# Altium schematic symbol library Audio - Alarms Buzzers and Sirens.SchLib: 4 symbols
Pins are listed as number, name and electrical type; pins without a type are passive.

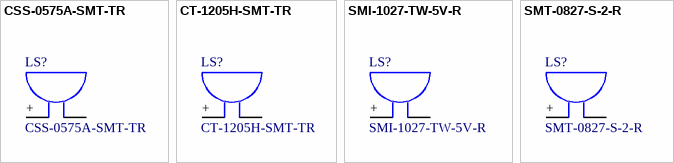
[diagram p0: symbols CSS-0575A-SMT-TR to SMT-0827-S-2-R]

## CSS-0575A-SMT-TR
designator LS?
AUDIO MAGNETIC XDCR 2-4V SMD; Manufacturer: CUI Devices; Current - Supply: 95mA; Driver Circuitry: Transducer, Externally Driven; Frequency: 4kHz; Input Type: Zero-Peak Signal; Operating Mode: Single Tone; Port Location: Top; Sound Pressure Level (SPL): 76dB @ 3V, 10cm; Voltage Range: 2 ~ 4V; Voltage - Rated: 3V; Part Number: CSS-0575A-SMT-TR; ComponentLink1Description: Datasheet; ComponentLink1URL: https://www.cuidevices.com/product/resource/digikeypdf/css-0575a-smt-tr.pdf; ComponentLink2Description: DigiKey Link; ComponentLink2URL: http://digikey.com/product-detail/en/cui-devices/CSS-0575A-SMT-TR/102-2201-1-ND/2364650; Height - Seated (Max): 0.094" (2.40mm); LastUpdated: 4/24/2020 12:39:31 AM; Lifecycle Status: Active; Minimum Order: 1; Mounting Type: Surface Mount; Operating Temperature: -30°C ~ 70°C; Packaging: TapeAndReel; Part Status: Active; Price: 1.50; Series: CSS; Size / Dimension: 0.197" L x 0.197" W (5.00mm x 5.00mm); Supplier 1: DigiKey; Supplier Part Number 1: 102-2201-1-ND; Technology: Magnetic; Termination: Solder Pads
footprint CUI CSS-0575A-SMT-TR
pins: +, -

## CT-1205H-SMT-TR
designator LS?
AUDIO MAGNETIC XDCR 3-7V SMD; Manufacturer: CUI Devices; Current - Supply: 60mA; Driver Circuitry: Transducer, Externally Driven; Frequency: 2.4kHz; Input Type: Zero-Peak Signal; Operating Mode: Single Tone; Port Location: Top; Ratings: Washable; Sound Pressure Level (SPL): 88dB @ 5V, 10cm; Voltage Range: 3 ~ 7V; Voltage - Rated: 5V; Part Number: CT-1205H-SMT-TR; ComponentLink1Description: Datasheet; ComponentLink1URL: https://www.cuidevices.com/product/resource/digikeypdf/ct-1205h-smt-tr.pdf; ComponentLink2Description: DigiKey Link; ComponentLink2URL: http://digikey.com/product-detail/en/cui-devices/CT-1205H-SMT-TR/102-1266-1-ND/610974; Height - Seated (Max): 0.406" (10.30mm); LastUpdated: 4/24/2020 12:37:20 AM; Lifecycle Status: Active; Minimum Order: 1; Mounting Type: Surface Mount; Operating Temperature: -30°C ~ 70°C; Packaging: TapeAndReel; Part Status: Active; Price: 0.95; Series: CT; Size / Dimension: 0.504" L x 0.504" W (12.80mm x 12.80mm); Supplier 1: DigiKey; Supplier Part Number 1: 102-1266-1-ND; Technology: Magnetic; Termination: Solder Pads
footprint CUI CT-1205H-SMT-TR
pins: +, -

## SMI-1027-TW-5V-R
designator LS?
AUDIO MAGNETIC IND 4-7V SMD; Manufacturer: PUI Audio, Inc.; Current - Supply: 30mA; Driver Circuitry: Indicator, Internally Driven; Frequency: 2.7kHz; Input Type: DC; Operating Mode: Single Tone; Port Location: Top; Ratings: Washable; Sound Pressure Level (SPL): 80dB @ 5V, 10cm; Voltage Range: 4 ~ 7V; Voltage - Rated: 5V; Part Number: SMI-1027-TW-5V-R; ComponentLink1Description: Datasheet; ComponentLink1URL: http://www.puiaudio.com/pdf/SMI-1027-TW-5V-R.pdf; ComponentLink2Description: DigiKey Link; ComponentLink2URL: http://digikey.com/product-detail/en/pui-audio-inc/SMI-1027-TW-5V-R/668-1537-1-ND/6021768; Height - Seated (Max): 0.209" (5.30mm); LastUpdated: 4/24/2020 12:38:54 AM; Lifecycle Status: Active; Minimum Order: 1; Mounting Type: Surface Mount; Operating Temperature: -40°C ~ 85°C; Packaging: TapeAndReel; Part Status: Active; Price: 2.15; Series: SMI; Size / Dimension: 0.378" L x 0.378" W (9.60mm x 9.60mm); Supplier 1: DigiKey; Supplier Part Number 1: 668-1537-1-ND; Technology: Magnetic; Termination: Solder Pads
footprint PUI Audio SMI-1027-TW-5V-R
pins: +, -

## SMT-0827-S-2-R
designator LS?
AUDIO MAGNETIC XDCR 2.5-4.5V SMD; Manufacturer: PUI Audio, Inc.; Current - Supply: 90mA; Driver Circuitry: Transducer, Externally Driven; Frequency: 2.7kHz; Input Type: Zero-Peak Signal; Operating Mode: Single Tone; Port Location: Side; Sound Pressure Level (SPL): 92dB @ 3.6V, 10cm; Voltage Range: 2.5 ~ 4.5V; Voltage - Rated: 3.6V; Part Number: SMT-0827-S-2-R; ComponentLink1Description: Datasheet; ComponentLink1URL: http://www.puiaudio.com/pdf/SMT-0827-S-2-R.pdf; ComponentLink2Description: DigiKey Link; ComponentLink2URL: http://digikey.com/product-detail/en/pui-audio-inc/SMT-0827-S-2-R/668-1072-1-ND/1464939; Height - Seated (Max): 0.177" (4.50mm); LastUpdated: 4/24/2020 12:38:09 AM; Lifecycle Status: Active; Minimum Order: 1; Mounting Type: Surface Mount; Operating Temperature: -30°C ~ 70°C; Packaging: TapeAndReel; Part Status: Active; Price: 2.03; Series: SMT; Size / Dimension: 0.335" L x 0.335" W (8.50mm x 8.50mm); Supplier 1: DigiKey; Supplier Part Number 1: 668-1072-1-ND; Technology: Magnetic; Termination: Solder Pads
footprint PUI Audio SMT-0827-S-2-R
pins: +, -